# Altium schematic symbol library LTST-C190KRKT.SchLib: 1 symbol
Pins are listed as number, name and electrical type; pins without a type are passive.

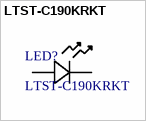
[diagram p0: symbol LTST-C190KRKT]

## LTST-C190KRKT
designator LED?
Description; Manufacturer_Name: LITE-ON; Type: LED Indication; Copyright: Copyright (C) 2026 Ultra Librarian. All rights reserved.; Manufacturer_Part_Number: LTST-C190KRKT
footprint LED_LTST-C190_LTO
pins: 1 CATHODE, 2 ANODE